# Altium integrated library Infineon_Microcontroller.IntLib: 721 symbols (part 11 of 66)
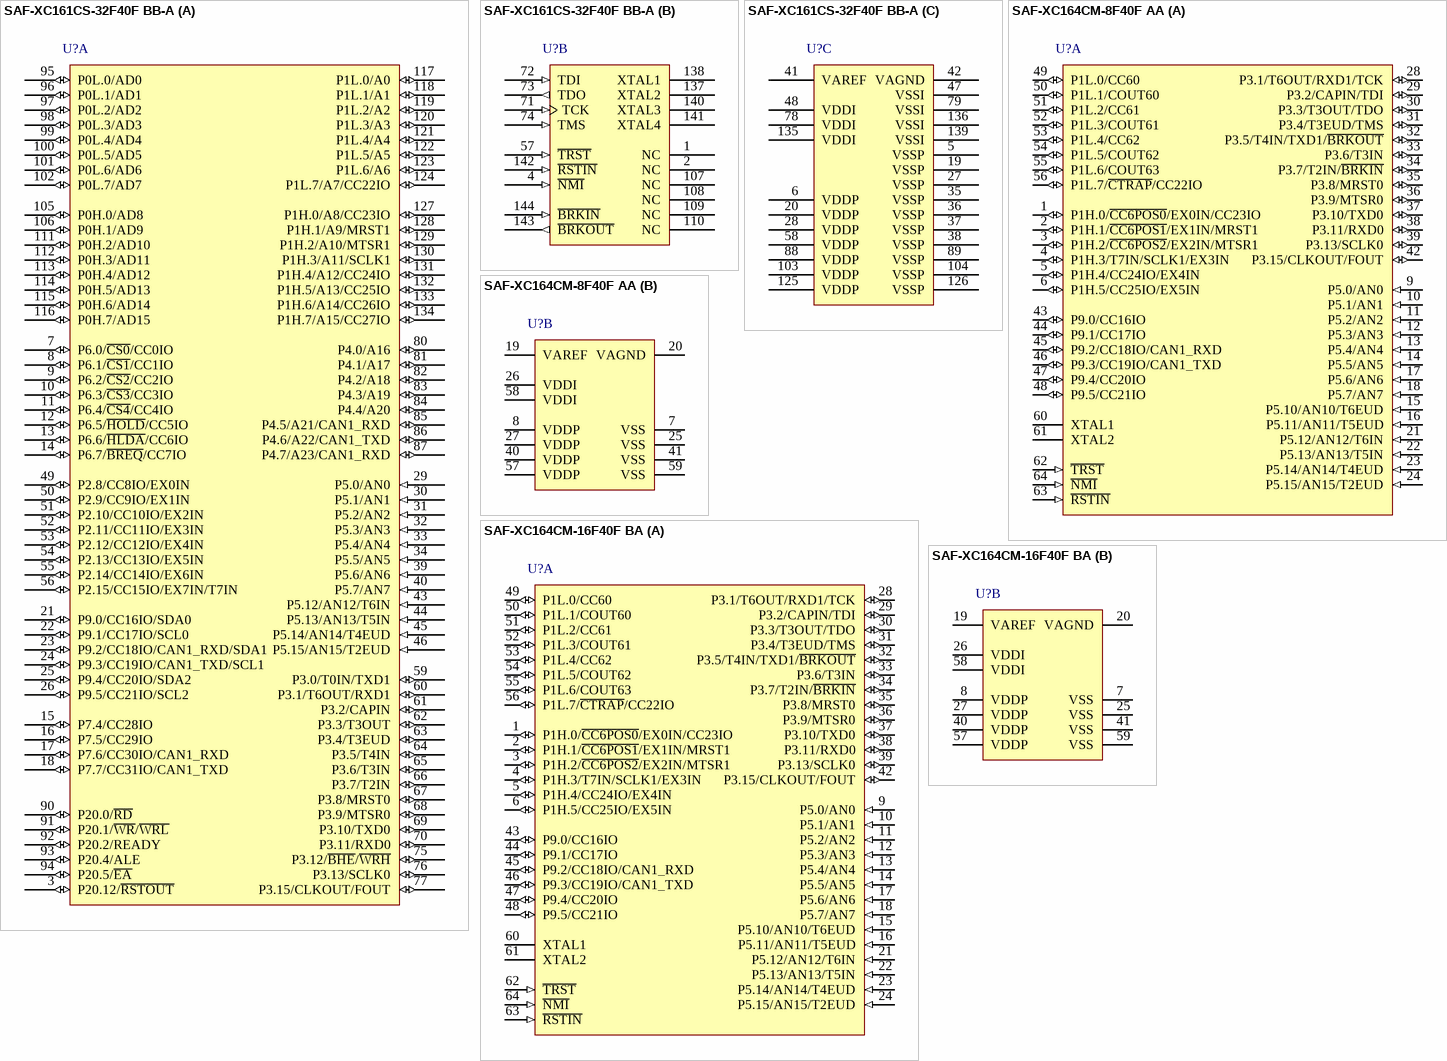
[diagram p128: symbols SAF-XC161CS-32F40F BB-A to SAF-XC164CM-16F40F BA]

## SAF-XC164CM-16F40F BA
designator U?
40 MHz XC166 MCU with 128 KByte Program Memory, 8 KByte SRAM, 5 V, -40 to 85 degC, PG-LQFP-64, Reel, Green; Manufacturer: Infineon; PartNumber: SAF-XC164CM-16F40F BA; A / D input lines (incl. FADC): 14; CAN Nodes: 2; Digital I/O Lines: 47; DSP functionality (e.g MDU/MAC): TRUE; I/O Operation Voltages: 5 V; Instruction width [bits]: 16; Max Clock Frequency: 40 MHz; Number of ADC Modules: 1; Packing: Tray; Power Modes: 3; Serial I/O Interfaces: 4; SRAM (incl. Cache): 8 KByte; Timed I/O Pins (PWM-Ch,CAPCOM): 20; Timer / Counter: 9; Type of Memory: Flash; Type of Serial I/O Interfaces: ASC(2), SSC(2); DatasheetVersion: Rev. 1.4; PackageVersion: Jun-08; PackageReference: PG-LQFP-64-4; PackageDescription: 64-Pin Plastic (Green) Low Profile Quad Flat Package, 10 x 10 mm Body, 0.5 mm Pitch; Supplier 1: Newark; Supplier Part Number 1: 47W3695; Supplier 2: Farnell; Supplier Part Number 2: 2212022; Supplier 3: Digi-Key; Supplier Part Number 3: SAF-XC164CM-16F40F BA-ND; External Bus interface: TRUE; Green: TRUE; Oscillator Watchdog: TRUE; Program Memory: 128 KByte; Real Time Clock (RTC): TRUE; Watchdog Timer: TRUE; Mounting Technology: Surface Mount; ComponentLink1Description: Manufacturer URL; ComponentLink1URL: http://www.infineon.com/; ComponentLink2Description: Datasheet; ComponentLink2URL: http://www.infineon.com/dgdl/xc164cm_ds_v1.4_2007_03.pdf?folderId=db3a304412b407950112b408e8c90004&fileId=db3a304412b407950112b40c0f3c0a1b; ComponentLink3Description: Package Specification; ComponentLink3URL: http://www.infineon.com/dgdl/PG-LQFP-64-4%2C-5%2C-13-Package_Overview.pdf?folderId=db3a30431a5c32f2011a8ca6115b5cf2&fileId=db3a30431a5c32f2011a8cb1baf95d11
footprint INF-PG-LQFP-64-4_N (QFP, 64-Leads, Body 10x10mm, Pitch 0.5mm, IPC Medium Density)
footprint INF-PG-LQFP-64-4_L (QFP, 64-Leads, Body 10x10mm, Pitch 0.5mm, IPC High Density)
footprint INF-PG-LQFP-64-4_M (QFP, 64-Leads, Body 10x10mm, Pitch 0.5mm, IPC Low Density)
part A pins: 1 P1H.0/~{CC6POS0}/EX0IN/CC23IO (io), 2 P1H.1/~{CC6POS1}/EX1IN/MRST1 (io), 3 P1H.2/~{CC6POS2}/EX2IN/MTSR1 (io), 4 P1H.3/T7IN/SCLK1/EX3IN (io), 5 P1H.4/CC24IO/EX4IN (io), 6 P1H.5/CC25IO/EX5IN (io), 9 P5.0/AN0 (in), 10 P5.1/AN1 (in), 11 P5.2/AN2 (in), 12 P5.3/AN3 (in), 13 P5.4/AN4 (in), 14 P5.5/AN5 (in), 15 P5.10/AN10/T6EUD (in), 16 P5.11/AN11/T5EUD (in), 17 P5.6/AN6 (in), 18 P5.7/AN7 (in), 21 P5.12/AN12/T6IN (in), 22 P5.13/AN13/T5IN (in), 23 P5.14/AN14/T4EUD (in), 24 P5.15/AN15/T2EUD (in), 28 P3.1/T6OUT/RXD1/TCK (io), 29 P3.2/CAPIN/TDI (io), 30 P3.3/T3OUT/TDO (io), 31 P3.4/T3EUD/TMS (io), 32 P3.5/T4IN/TXD1/~{BRKOUT} (io), 33 P3.6/T3IN (io), 34 P3.7/T2IN/~{BRKIN} (io), 35 P3.8/MRST0 (io), 36 P3.9/MTSR0 (io), 37 P3.10/TXD0 (io), 38 P3.11/RXD0 (io), 39 P3.13/SCLK0 (io), 42 P3.15/CLKOUT/FOUT (io), 43 P9.0/CC16IO (io), 44 P9.1/CC17IO (io), 45 P9.2/CC18IO/CAN1_RXD (io), 46 P9.3/CC19IO/CAN1_TXD (io), 47 P9.4/CC20IO (io), 48 P9.5/CC21IO (io), 49 P1L.0/CC60 (io), 50 P1L.1/COUT60 (io), 51 P1L.2/CC61 (io), 52 P1L.3/COUT61 (io), 53 P1L.4/CC62 (io), 54 P1L.5/COUT62 (io), 55 P1L.6/COUT63 (io), 56 P1L.7/~{CTRAP}/CC22IO (io), 60 XTAL1 "XTAL1: Input to the oscillator amplifier and input to the internal clock generator To clock the device from an external source, drive XTAL1, while leaving XTAL2 unconnected. Minimum and maximum high/low and rise/fall times (See Datasheet)", 61 XTAL2 "XTAL2: Output of the oscillator amplifier circuit", 62 ~{TRST} (in) "Test-System Reset Input. For normal system operation, pin T\R\S\T\ should be held low. A high level at this pin at the rising edge of R\S\T\I\N\ enables the hardware configuration and activates the XC164CM’s debug system(See Datasheet)", 63 ~{RSTIN} (in) "Reset Input with Schmitt-Trigger characteristics. A low-level at this pin while the oscillator is running resets the XC164CM. A spike filter suppresses input pulses < 10 ns. Input pulses > 100 ns safely pass the filter. The (See Datasheet)", 64 ~{NMI} (in) "Non-Maskable Interrupt Input. A high to low transition at this pin causes the CPU to vector to the NMI trap routine. When the PWRDN (power down) instruction is executed, the N\M\I\ pin must be low in order to force the (See Datasheet)"
part B pins: 7 VSS (power) "Digital Ground", 8 VDDP (power) "Digital Pad Supply Voltage (Pin Output Drivers): +5 V during normal operation and idle mode. Please refer to the Operating Condition Parameters", 19 VAREF (power) "Reference voltage for the A/D converter", 20 VAGND (power) "Reference ground for the A/D converter", 25 VSS (power) "Digital Ground", 26 VDDI (power) "Digital Core Supply Voltage (On-Chip Modules): +2.5 V during normal operation and idle mode. Please refer to the Operating Condition Parameters", 27 VDDP (power) "Digital Pad Supply Voltage (Pin Output Drivers): +5 V during normal operation and idle mode. Please refer to the Operating Condition Parameters", 40 VDDP (power) "Digital Pad Supply Voltage (Pin Output Drivers): +5 V during normal operation and idle mode. Please refer to the Operating Condition Parameters", 41 VSS (power) "Digital Ground", 57 VDDP (power) "Digital Pad Supply Voltage (Pin Output Drivers): +5 V during normal operation and idle mode. Please refer to the Operating Condition Parameters", 58 VDDI (power) "Digital Core Supply Voltage (On-Chip Modules): +2.5 V during normal operation and idle mode. Please refer to the Operating Condition Parameters", 59 VSS (power) "Digital Ground"

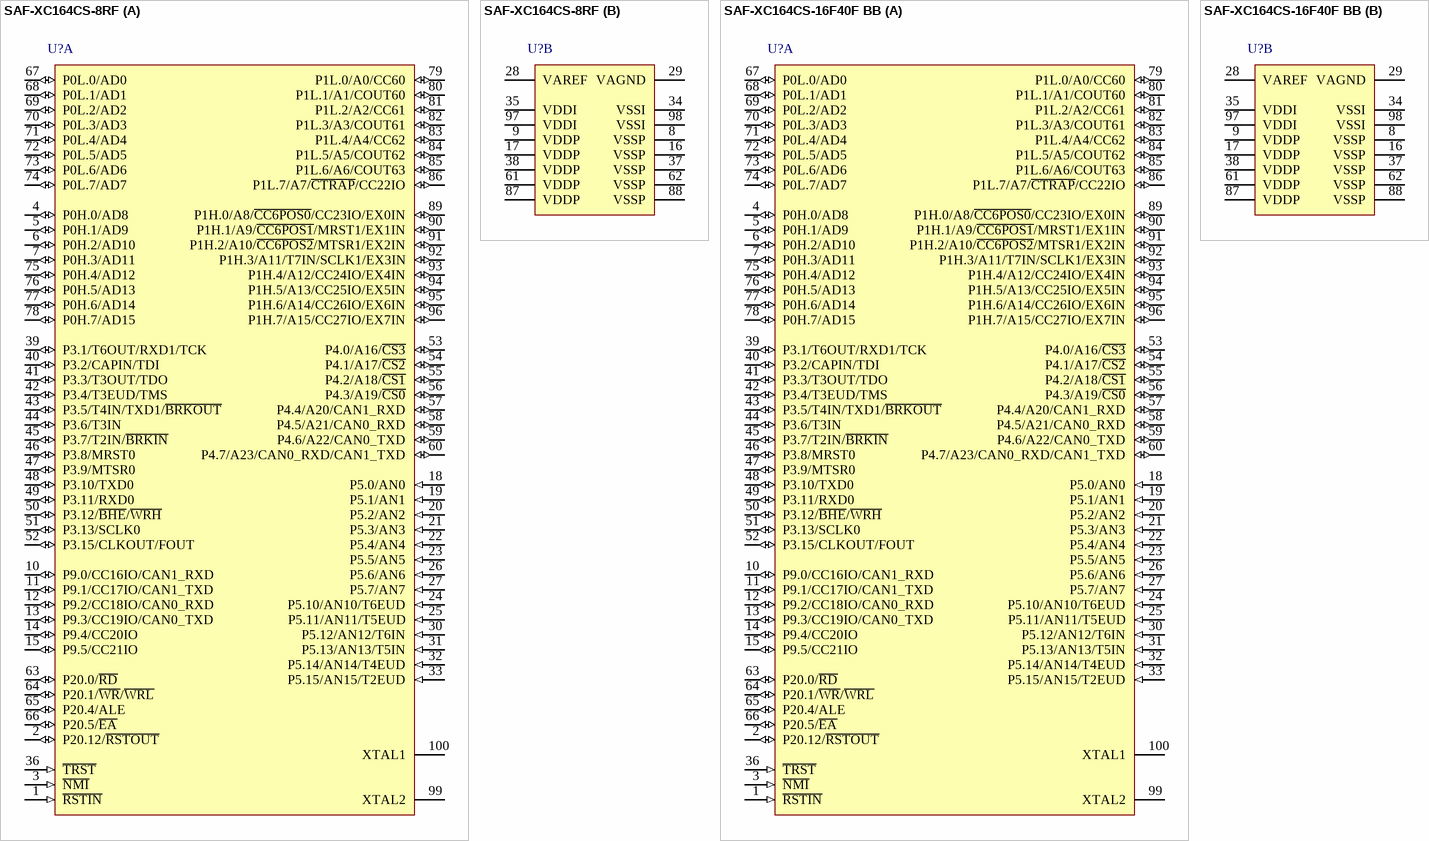
[diagram p17: symbols SAF-XC164CS-8RF to SAF-XC164CS-16F40F BB]

## SAF-XC164CS-8RF
designator U?
40 MHz XC166 MCU with 64 KByte Program Memory, 6 KByte SRAM, 5 V, -40 to 85 degC, PG-TQFP-100, Green; Manufacturer: Infineon; PartNumber: SAF-XC164CS-8RF; A / D input lines (incl. FADC): 14; CAN Nodes: 2; Digital I/O Lines: 79; DSP functionality (e.g MDU/MAC): TRUE; I/O Operation Voltages: 5 V; Instruction width [bits]: 16; Max Clock Frequency: 40 MHz; Number of ADC Modules: 1; Power Modes: 3; Serial I/O Interfaces: 4; SRAM (incl. Cache): 6 KByte; Timed I/O Pins (PWM-Ch,CAPCOM): 36; Timer / Counter: 11; Type of Memory: ROM; Type of Serial I/O Interfaces: ASC(2), SSC(2); DatasheetVersion: Rev. 2.3; PackageVersion: V2.3, 08/2006; PackageReference: PG-TQFP-100-5; PackageDescription: 100-Pin Plastic Green Thin Quad Flat Package, Body 14 x 14 mm, Pitch 0.5 mm; Supplier 1: Mouser; Supplier Part Number 1: N/A; External Bus interface: TRUE; Green: TRUE; Oscillator Watchdog: TRUE; Program Memory: 64 KByte; Real Time Clock (RTC): TRUE; Watchdog Timer: TRUE; Mounting Technology: Surface Mount; Code_JEDEC: J-STD-020C; ComponentLink1Description: Manufacturer URL; ComponentLink1URL: http://www.infineon.com/; ComponentLink2Description: Datasheet; ComponentLink2URL: http://www.infineon.com/dgdl/xc164cs_16_ds_v2.3_2006_08.pdf?folderId=db3a3043136c9a8b01136d92c94b0061&fileId=db3a3043136c9a8b01136daed118006e; ComponentLink3Description: Package Specification; ComponentLink3URL: http://www.infineon.com/dgdl/xc164cs_16_ds_v2.3_2006_08.pdf?folderId=db3a3043136c9a8b01136d92c94b0061&fileId=db3a3043136c9a8b01136daed118006e&sId=db3a30433d956bc3013d9bdc2bfa14ec
footprint INF-PG-TQFP-100-5_N (QFP, 100-Leads, Body 14x14mm, Pitch 0.5mm, IPC Medium Density)
footprint INF-PG-TQFP-100-5_L (QFP, 100-Leads, Body 14x14mm, Pitch 0.5mm, IPC High Density)
footprint INF-PG-TQFP-100-5_M (QFP, 100-Leads, Body 14x14mm, Pitch 0.5mm, IPC Low Density)
part A pins: 1 ~{RSTIN} (in) "Reset Input with Schmitt-Trigger characteristics. A low level at this pin while the oscillator is running resets the XC164CS. A spike filter suppresses input pulses < 10 ns. Input pulses > 100 ns safely pass the filter. The (See Datasheet)", 2 P20.12/~{RSTOUT} (io), 3 ~{NMI} (in) "Non-Maskable Interrupt Input. A high to low transition at this pin causes the CPU to vector to the NMI trap routine. When the PWRDN (power down) instruction is executed, the N\M\I\ pin must be low in order to force the (See Datasheet)", 4 P0H.0/AD8 (io), 5 P0H.1/AD9 (io), 6 P0H.2/AD10 (io), 7 P0H.3/AD11 (io), 10 P9.0/CC16IO/CAN1_RXD (io), 11 P9.1/CC17IO/CAN1_TXD (io), 12 P9.2/CC18IO/CAN0_RXD (io), 13 P9.3/CC19IO/CAN0_TXD (io), 14 P9.4/CC20IO (io), 15 P9.5/CC21IO (io), 18 P5.0/AN0 (in), 19 P5.1/AN1 (in), 20 P5.2/AN2 (in), 21 P5.3/AN3 (in), 22 P5.4/AN4 (in), 23 P5.5/AN5 (in), 24 P5.10/AN10/T6EUD (in), 25 P5.11/AN11/T5EUD (in), 26 P5.6/AN6 (in), 27 P5.7/AN7 (in), 30 P5.12/AN12/T6IN (in), 31 P5.13/AN13/T5IN (in), 32 P5.14/AN14/T4EUD (in), 33 P5.15/AN15/T2EUD (in), 36 ~{TRST} (in) "Test-System Reset Input. A high level at this pin activates the XC164CS’s debug system. For normal system operation, pin T\R\S\T\ should be held low.", 39 P3.1/T6OUT/RXD1/TCK (io), 40 P3.2/CAPIN/TDI (io), 41 P3.3/T3OUT/TDO (io), 42 P3.4/T3EUD/TMS (io), 43 P3.5/T4IN/TXD1/~{BRKOUT} (io), 44 P3.6/T3IN (io), 45 P3.7/T2IN/~{BRKIN} (io), 46 P3.8/MRST0 (io), 47 P3.9/MTSR0 (io), 48 P3.10/TXD0 (io), 49 P3.11/RXD0 (io), 50 P3.12/~{BHE}/~{WRH} (io), 51 P3.13/SCLK0 (io), 52 P3.15/CLKOUT/FOUT (io), 53 P4.0/A16/~{CS3} (io), 54 P4.1/A17/~{CS2} (io), 55 P4.2/A18/~{CS1} (io), 56 P4.3/A19/~{CS0} (io), 57 P4.4/A20/CAN1_RXD (io), 58 P4.5/A21/CAN0_RXD (io), 59 P4.6/A22/CAN0_TXD (io), 60 P4.7/A23/CAN0_RXD/CAN1_TXD (io), 63 P20.0/~{RD} (io), 64 P20.1/~{WR}/~{WRL} (io), 65 P20.4/ALE (io), 66 P20.5/~{EA} (io), 67 P0L.0/AD0 (io), 68 P0L.1/AD1 (io), 69 P0L.2/AD2 (io), 70 P0L.3/AD3 (io), 71 P0L.4/AD4 (io), 72 P0L.5/AD5 (io), 73 P0L.6/AD6 (io), 74 P0L.7/AD7 (io), 75 P0H.4/AD12 (io), 76 P0H.5/AD13 (io), 77 P0H.6/AD14 (io), 78 P0H.7/AD15 (io), 79 P1L.0/A0/CC60 (io), 80 P1L.1/A1/COUT60 (io), 81 P1L.2/A2/CC61 (io), 82 P1L.3/A3/COUT61 (io), 83 P1L.4/A4/CC62 (io), 84 P1L.5/A5/COUT62 (io), 85 P1L.6/A6/COUT63 (io), 86 P1L.7/A7/~{CTRAP}/CC22IO (io), 89 P1H.0/A8/~{CC6POS0}/CC23IO/EX0IN (io), 90 P1H.1/A9/~{CC6POS1}/MRST1/EX1IN (io), 91 P1H.2/A10/~{CC6POS2}/MTSR1/EX2IN (io), 92 P1H.3/A11/T7IN/SCLK1/EX3IN (io), 93 P1H.4/A12/CC24IO/EX4IN (io), 94 P1H.5/A13/CC25IO/EX5IN (io), 95 P1H.6/A14/CC26IO/EX6IN (io), 96 P1H.7/A15/CC27IO/EX7IN (io), 99 XTAL2 "Output of the oscillator amplifier circuit", 100 XTAL1 "Input to the oscillator amplifier and input to the internal clock generator"
part B pins: 8 VSSP (power) "Digital Ground.", 9 VDDP (power) "Digital Pad Supply Voltage", 16 VSSP (power) "Digital Ground.", 17 VDDP (power) "Digital Pad Supply Voltage", 28 VAREF (power) "Reference voltage for the A/D converter.", 29 VAGND (power) "Reference ground for the A/D converter.", 34 VSSI (power) "Digital Ground.", 35 VDDI (power) "Digital Core Supply Voltage", 37 VSSP (power) "Digital Ground.", 38 VDDP (power) "Digital Pad Supply Voltage", 61 VDDP (power) "Digital Pad Supply Voltage", 62 VSSP (power) "Digital Ground.", 87 VDDP (power) "Digital Pad Supply Voltage", 88 VSSP (power) "Digital Ground.", 97 VDDI (power) "Digital Core Supply Voltage", 98 VSSI (power) "Digital Ground."

## SAF-XC164CS-16F40F BB
designator U?
40 MHz XC166 MCU with 128 KByte Program Memory, 8 KByte SRAM, 5 V, -40 to 85 degC, PG-TQFP-100, Reel, Green; Manufacturer: Infineon; PartNumber: SAF-XC164CS-16F40F BB; A / D input lines (incl. FADC): 14; CAN Nodes: 2; Digital I/O Lines: 79; DSP functionality (e.g MDU/MAC): TRUE; I/O Operation Voltages: 5 V; Instruction width [bits]: 16; Max Clock Frequency: 40 MHz; Number of ADC Modules: 1; Power Modes: 3; Serial I/O Interfaces: 4; SRAM (incl. Cache): 8 KByte; Timed I/O Pins (PWM-Ch,CAPCOM): 36; Timer / Counter: 11; Type of Memory: Flash; Type of Serial I/O Interfaces: ASC(2), SSC(2); DatasheetVersion: Rev. 2.3; PackageVersion: V2.3, 08/2006; PackageReference: PG-TQFP-100-5; PackageDescription: 100-Pin Plastic Green Thin Quad Flat Package, Body 14 x 14 mm, Pitch 0.5 mm; Supplier 1: Mouser; Supplier Part Number 1: 726-SAFXC164CS16F40F; Supplier 2: Newark; Supplier Part Number 2: 47W3697; Supplier 3: Farnell; Supplier Part Number 3: 2212028; Supplier 4: Digi-Key; Supplier Part Number 4: SAF-XC164CS-16F40F BB-ND; External Bus interface: TRUE; Green: TRUE; Halogen-free: TRUE; Oscillator Watchdog: TRUE; Packing: Reel; Program Memory: 128 KByte; Real Time Clock (RTC): TRUE; Watchdog Timer: TRUE; Mounting Technology: Surface Mount; Code_JEDEC: J-STD-020C; ComponentLink1Description: Manufacturer URL; ComponentLink1URL: http://www.infineon.com/; ComponentLink2Description: Datasheet; ComponentLink2URL: http://www.infineon.com/dgdl/xc164cs_16_ds_v2.3_2006_08.pdf?folderId=db3a3043136c9a8b01136d92c94b0061&fileId=db3a3043136c9a8b01136daed118006e; ComponentLink3Description: Package Specification; ComponentLink3URL: http://www.infineon.com/dgdl/xc164cs_16_ds_v2.3_2006_08.pdf?folderId=db3a3043136c9a8b01136d92c94b0061&fileId=db3a3043136c9a8b01136daed118006e&sId=db3a30433d956bc3013d9bdc2bfa14ec
footprint INF-PG-TQFP-100-5_N (QFP, 100-Leads, Body 14x14mm, Pitch 0.5mm, IPC Medium Density)
footprint INF-PG-TQFP-100-5_L (QFP, 100-Leads, Body 14x14mm, Pitch 0.5mm, IPC High Density)
footprint INF-PG-TQFP-100-5_M (QFP, 100-Leads, Body 14x14mm, Pitch 0.5mm, IPC Low Density)
part A pins: 1 ~{RSTIN} (in) "Reset Input with Schmitt-Trigger characteristics. A low level at this pin while the oscillator is running resets the XC164CS. A spike filter suppresses input pulses < 10 ns. Input pulses > 100 ns safely pass the filter. The (See Datasheet)", 2 P20.12/~{RSTOUT} (io), 3 ~{NMI} (in) "Non-Maskable Interrupt Input. A high to low transition at this pin causes the CPU to vector to the NMI trap routine. When the PWRDN (power down) instruction is executed, the N\M\I\ pin must be low in order to force the (See Datasheet)", 4 P0H.0/AD8 (io), 5 P0H.1/AD9 (io), 6 P0H.2/AD10 (io), 7 P0H.3/AD11 (io), 10 P9.0/CC16IO/CAN1_RXD (io), 11 P9.1/CC17IO/CAN1_TXD (io), 12 P9.2/CC18IO/CAN0_RXD (io), 13 P9.3/CC19IO/CAN0_TXD (io), 14 P9.4/CC20IO (io), 15 P9.5/CC21IO (io), 18 P5.0/AN0 (in), 19 P5.1/AN1 (in), 20 P5.2/AN2 (in), 21 P5.3/AN3 (in), 22 P5.4/AN4 (in), 23 P5.5/AN5 (in), 24 P5.10/AN10/T6EUD (in), 25 P5.11/AN11/T5EUD (in), 26 P5.6/AN6 (in), 27 P5.7/AN7 (in), 30 P5.12/AN12/T6IN (in), 31 P5.13/AN13/T5IN (in), 32 P5.14/AN14/T4EUD (in), 33 P5.15/AN15/T2EUD (in), 36 ~{TRST} (in) "Test-System Reset Input. A high level at this pin activates the XC164CS’s debug system. For normal system operation, pin T\R\S\T\ should be held low.", 39 P3.1/T6OUT/RXD1/TCK (io), 40 P3.2/CAPIN/TDI (io), 41 P3.3/T3OUT/TDO (io), 42 P3.4/T3EUD/TMS (io), 43 P3.5/T4IN/TXD1/~{BRKOUT} (io), 44 P3.6/T3IN (io), 45 P3.7/T2IN/~{BRKIN} (io), 46 P3.8/MRST0 (io), 47 P3.9/MTSR0 (io), 48 P3.10/TXD0 (io), 49 P3.11/RXD0 (io), 50 P3.12/~{BHE}/~{WRH} (io), 51 P3.13/SCLK0 (io), 52 P3.15/CLKOUT/FOUT (io), 53 P4.0/A16/~{CS3} (io), 54 P4.1/A17/~{CS2} (io), 55 P4.2/A18/~{CS1} (io), 56 P4.3/A19/~{CS0} (io), 57 P4.4/A20/CAN1_RXD (io), 58 P4.5/A21/CAN0_RXD (io), 59 P4.6/A22/CAN0_TXD (io), 60 P4.7/A23/CAN0_RXD/CAN1_TXD (io), 63 P20.0/~{RD} (io), 64 P20.1/~{WR}/~{WRL} (io), 65 P20.4/ALE (io), 66 P20.5/~{EA} (io), 67 P0L.0/AD0 (io), 68 P0L.1/AD1 (io), 69 P0L.2/AD2 (io), 70 P0L.3/AD3 (io), 71 P0L.4/AD4 (io), 72 P0L.5/AD5 (io), 73 P0L.6/AD6 (io), 74 P0L.7/AD7 (io), 75 P0H.4/AD12 (io), 76 P0H.5/AD13 (io), 77 P0H.6/AD14 (io), 78 P0H.7/AD15 (io), 79 P1L.0/A0/CC60 (io), 80 P1L.1/A1/COUT60 (io), 81 P1L.2/A2/CC61 (io), 82 P1L.3/A3/COUT61 (io), 83 P1L.4/A4/CC62 (io), 84 P1L.5/A5/COUT62 (io), 85 P1L.6/A6/COUT63 (io), 86 P1L.7/A7/~{CTRAP}/CC22IO (io), 89 P1H.0/A8/~{CC6POS0}/CC23IO/EX0IN (io), 90 P1H.1/A9/~{CC6POS1}/MRST1/EX1IN (io), 91 P1H.2/A10/~{CC6POS2}/MTSR1/EX2IN (io), 92 P1H.3/A11/T7IN/SCLK1/EX3IN (io), 93 P1H.4/A12/CC24IO/EX4IN (io), 94 P1H.5/A13/CC25IO/EX5IN (io), 95 P1H.6/A14/CC26IO/EX6IN (io), 96 P1H.7/A15/CC27IO/EX7IN (io), 99 XTAL2 "Output of the oscillator amplifier circuit", 100 XTAL1 "Input to the oscillator amplifier and input to the internal clock generator"
part B pins: 8 VSSP (power) "Digital Ground.", 9 VDDP (power) "Digital Pad Supply Voltage", 16 VSSP (power) "Digital Ground.", 17 VDDP (power) "Digital Pad Supply Voltage", 28 VAREF (power) "Reference voltage for the A/D converter.", 29 VAGND (power) "Reference ground for the A/D converter.", 34 VSSI (power) "Digital Ground.", 35 VDDI (power) "Digital Core Supply Voltage", 37 VSSP (power) "Digital Ground.", 38 VDDP (power) "Digital Pad Supply Voltage", 61 VDDP (power) "Digital Pad Supply Voltage", 62 VSSP (power) "Digital Ground.", 87 VDDP (power) "Digital Pad Supply Voltage", 88 VSSP (power) "Digital Ground.", 97 VDDI (power) "Digital Core Supply Voltage", 98 VSSI (power) "Digital Ground."

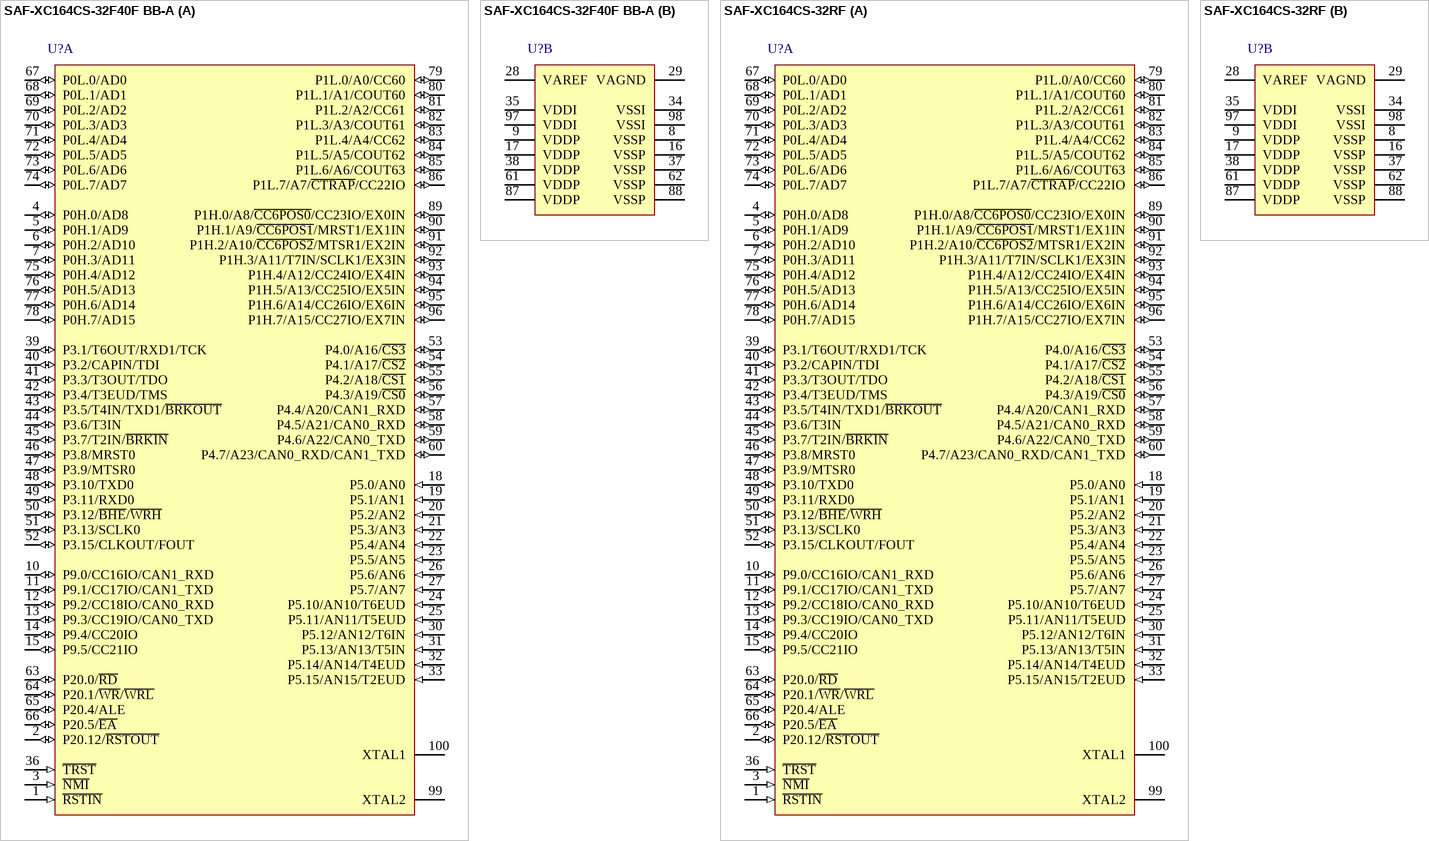
[diagram p18: symbols SAF-XC164CS-32F40F BB-A to SAF-XC164CS-32RF]

## SAF-XC164CS-32F40F BB-A
designator U?
40 MHz XC166 MCU with 256 KByte Program Memory, 12 KByte SRAM, 5 V, -40 to 85 degC, PG-TQFP-100, Reel, Green; Manufacturer: Infineon; PartNumber: SAF-XC164CS-32F40F BB-A; A / D input lines (incl. FADC): 14; CAN Nodes: 2; Digital I/O Lines: 79; DSP functionality (e.g MDU/MAC): TRUE; I/O Operation Voltages: 5 V; Instruction width [bits]: 16; Max Clock Frequency: 40 MHz; Number of ADC Modules: 1; Power Modes: 3; Serial I/O Interfaces: 4; Timed I/O Pins (PWM-Ch,CAPCOM): 36; Timer / Counter: 11; Type of Memory: Flash; Type of Serial I/O Interfaces: ASC(2), SSC(2); DatasheetVersion: Rev. 1.1; PackageVersion: V2.3, 08/2006; PackageReference: PG-TQFP-100-5; PackageDescription: 100-Pin Plastic Green Thin Quad Flat Package, Body 14 x 14 mm, Pitch 0.5 mm; Supplier 1: Mouser; Supplier Part Number 1: 726-SAFXC164CS32F40F; Supplier 2: Newark; Supplier Part Number 2: 47W3698; Supplier 3: Farnell; Supplier Part Number 3: 2212023; Supplier 4: Digi-Key; Supplier Part Number 4: SAF-XC164CS-32F40F BB-A-ND; External Bus interface: TRUE; Green: TRUE; Halogen-free: TRUE; Oscillator Watchdog: TRUE; Packing: Reel; Program Memory: 256 KByte; Real Time Clock (RTC): TRUE; SRAM (incl. Cache): 12 KByte; Watchdog Timer: TRUE; Mounting Technology: Surface Mount; Code_JEDEC: J-STD-020C; ComponentLink1Description: Manufacturer URL; ComponentLink1URL: http://www.infineon.com/; ComponentLink2Description: Datasheet; ComponentLink2URL: http://www.infineon.com/dgdl/xc164cs_32_ds_v1.1_2006_08.pdf?folderId=db3a3043136c9a8b01136d92c94b0061&fileId=db3a3043136c9a8b01136d9c9f930069; ComponentLink3Description: Package Specification; ComponentLink3URL: http://www.infineon.com/dgdl/xc164cs_16_ds_v2.3_2006_08.pdf?folderId=db3a3043136c9a8b01136d92c94b0061&fileId=db3a3043136c9a8b01136daed118006e&sId=db3a30433d956bc3013d9bdc2bfa14ec
footprint INF-PG-TQFP-100-5_N (QFP, 100-Leads, Body 14x14mm, Pitch 0.5mm, IPC Medium Density)
footprint INF-PG-TQFP-100-5_L (QFP, 100-Leads, Body 14x14mm, Pitch 0.5mm, IPC High Density)
footprint INF-PG-TQFP-100-5_M (QFP, 100-Leads, Body 14x14mm, Pitch 0.5mm, IPC Low Density)
part A pins: 1 ~{RSTIN} (in) "Reset Input with Schmitt-Trigger characteristics. A low level at this pin while the oscillator is running resets the XC164CS. A spike filter suppresses input pulses < 10 ns. Input pulses > 100 ns safely pass the filter. The (See Datasheet)", 2 P20.12/~{RSTOUT} (io), 3 ~{NMI} (in) "Non-Maskable Interrupt Input. A high to low transition at this pin causes the CPU to vector to the NMI trap routine. When the PWRDN (power down) instruction is executed, the N\M\I\ pin must be low in order to force the (See Datasheet)", 4 P0H.0/AD8 (io), 5 P0H.1/AD9 (io), 6 P0H.2/AD10 (io), 7 P0H.3/AD11 (io), 10 P9.0/CC16IO/CAN1_RXD (io), 11 P9.1/CC17IO/CAN1_TXD (io), 12 P9.2/CC18IO/CAN0_RXD (io), 13 P9.3/CC19IO/CAN0_TXD (io), 14 P9.4/CC20IO (io), 15 P9.5/CC21IO (io), 18 P5.0/AN0 (in), 19 P5.1/AN1 (in), 20 P5.2/AN2 (in), 21 P5.3/AN3 (in), 22 P5.4/AN4 (in), 23 P5.5/AN5 (in), 24 P5.10/AN10/T6EUD (in), 25 P5.11/AN11/T5EUD (in), 26 P5.6/AN6 (in), 27 P5.7/AN7 (in), 30 P5.12/AN12/T6IN (in), 31 P5.13/AN13/T5IN (in), 32 P5.14/AN14/T4EUD (in), 33 P5.15/AN15/T2EUD (in), 36 ~{TRST} (in) "Test-System Reset Input. A high level at this pin activates the XC164CS’s debug system. For normal system operation, pin T\R\S\T\ should be held low.", 39 P3.1/T6OUT/RXD1/TCK (io), 40 P3.2/CAPIN/TDI (io), 41 P3.3/T3OUT/TDO (io), 42 P3.4/T3EUD/TMS (io), 43 P3.5/T4IN/TXD1/~{BRKOUT} (io), 44 P3.6/T3IN (io), 45 P3.7/T2IN/~{BRKIN} (io), 46 P3.8/MRST0 (io), 47 P3.9/MTSR0 (io), 48 P3.10/TXD0 (io), 49 P3.11/RXD0 (io), 50 P3.12/~{BHE}/~{WRH} (io), 51 P3.13/SCLK0 (io), 52 P3.15/CLKOUT/FOUT (io), 53 P4.0/A16/~{CS3} (io), 54 P4.1/A17/~{CS2} (io), 55 P4.2/A18/~{CS1} (io), 56 P4.3/A19/~{CS0} (io), 57 P4.4/A20/CAN1_RXD (io), 58 P4.5/A21/CAN0_RXD (io), 59 P4.6/A22/CAN0_TXD (io), 60 P4.7/A23/CAN0_RXD/CAN1_TXD (io), 63 P20.0/~{RD} (io), 64 P20.1/~{WR}/~{WRL} (io), 65 P20.4/ALE (io), 66 P20.5/~{EA} (io), 67 P0L.0/AD0 (io), 68 P0L.1/AD1 (io), 69 P0L.2/AD2 (io), 70 P0L.3/AD3 (io), 71 P0L.4/AD4 (io), 72 P0L.5/AD5 (io), 73 P0L.6/AD6 (io), 74 P0L.7/AD7 (io), 75 P0H.4/AD12 (io), 76 P0H.5/AD13 (io), 77 P0H.6/AD14 (io), 78 P0H.7/AD15 (io), 79 P1L.0/A0/CC60 (io), 80 P1L.1/A1/COUT60 (io), 81 P1L.2/A2/CC61 (io), 82 P1L.3/A3/COUT61 (io), 83 P1L.4/A4/CC62 (io), 84 P1L.5/A5/COUT62 (io), 85 P1L.6/A6/COUT63 (io), 86 P1L.7/A7/~{CTRAP}/CC22IO (io), 89 P1H.0/A8/~{CC6POS0}/CC23IO/EX0IN (io), 90 P1H.1/A9/~{CC6POS1}/MRST1/EX1IN (io), 91 P1H.2/A10/~{CC6POS2}/MTSR1/EX2IN (io), 92 P1H.3/A11/T7IN/SCLK1/EX3IN (io), 93 P1H.4/A12/CC24IO/EX4IN (io), 94 P1H.5/A13/CC25IO/EX5IN (io), 95 P1H.6/A14/CC26IO/EX6IN (io), 96 P1H.7/A15/CC27IO/EX7IN (io), 99 XTAL2 "Output of the oscillator amplifier circuit", 100 XTAL1 "Input to the oscillator amplifier and input to the internal clock generator"
part B pins: 8 VSSP (power) "Digital Ground.", 9 VDDP (power) "Digital Pad Supply Voltage", 16 VSSP (power) "Digital Ground.", 17 VDDP (power) "Digital Pad Supply Voltage", 28 VAREF (power) "Reference voltage for the A/D converter.", 29 VAGND (power) "Reference ground for the A/D converter.", 34 VSSI (power) "Digital Ground.", 35 VDDI (power) "Digital Core Supply Voltage", 37 VSSP (power) "Digital Ground.", 38 VDDP (power) "Digital Pad Supply Voltage", 61 VDDP (power) "Digital Pad Supply Voltage", 62 VSSP (power) "Digital Ground.", 87 VDDP (power) "Digital Pad Supply Voltage", 88 VSSP (power) "Digital Ground.", 97 VDDI (power) "Digital Core Supply Voltage", 98 VSSI (power) "Digital Ground."

## SAF-XC164CS-32RF
designator U?
40 MHz XC166 MCU with 256 KByte Program Memory, 12 KByte SRAM, 5 V, -40 to 85 degC, PG-TQFP-100, Green; Manufacturer: Infineon; PartNumber: SAF-XC164CS-32RF; A / D input lines (incl. FADC): 14; CAN Nodes: 2; Digital I/O Lines: 79; DSP functionality (e.g MDU/MAC): TRUE; I/O Operation Voltages: 5 V; Instruction width [bits]: 16; Max Clock Frequency: 40 MHz; Number of ADC Modules: 1; Power Modes: 3; Serial I/O Interfaces: 4; Timed I/O Pins (PWM-Ch,CAPCOM): 36; Timer / Counter: 11; Type of Memory: ROM; Type of Serial I/O Interfaces: ASC(2), SSC(2); DatasheetVersion: Rev. 1.1; PackageVersion: V2.3, 08/2006; PackageReference: PG-TQFP-100-5; PackageDescription: 100-Pin Plastic Green Thin Quad Flat Package, Body 14 x 14 mm, Pitch 0.5 mm; Supplier 1: Mouser; Supplier Part Number 1: N/A; External Bus interface: TRUE; Green: TRUE; Oscillator Watchdog: TRUE; Program Memory: 256 KByte; Real Time Clock (RTC): TRUE; SRAM (incl. Cache): 12 KByte; Watchdog Timer: TRUE; Mounting Technology: Surface Mount; Code_JEDEC: J-STD-020C; ComponentLink1Description: Manufacturer URL; ComponentLink1URL: http://www.infineon.com/; ComponentLink2Description: Datasheet; ComponentLink2URL: http://www.infineon.com/dgdl/xc164cs_32_ds_v1.1_2006_08.pdf?folderId=db3a3043136c9a8b01136d92c94b0061&fileId=db3a3043136c9a8b01136d9c9f930069; ComponentLink3Description: Package Specification; ComponentLink3URL: http://www.infineon.com/dgdl/xc164cs_16_ds_v2.3_2006_08.pdf?folderId=db3a3043136c9a8b01136d92c94b0061&fileId=db3a3043136c9a8b01136daed118006e&sId=db3a30433d956bc3013d9bdc2bfa14ec
footprint INF-PG-TQFP-100-5_N (QFP, 100-Leads, Body 14x14mm, Pitch 0.5mm, IPC Medium Density)
footprint INF-PG-TQFP-100-5_L (QFP, 100-Leads, Body 14x14mm, Pitch 0.5mm, IPC High Density)
footprint INF-PG-TQFP-100-5_M (QFP, 100-Leads, Body 14x14mm, Pitch 0.5mm, IPC Low Density)
part A pins: 1 ~{RSTIN} (in) "Reset Input with Schmitt-Trigger characteristics. A low level at this pin while the oscillator is running resets the XC164CS. A spike filter suppresses input pulses < 10 ns. Input pulses > 100 ns safely pass the filter. The (See Datasheet)", 2 P20.12/~{RSTOUT} (io), 3 ~{NMI} (in) "Non-Maskable Interrupt Input. A high to low transition at this pin causes the CPU to vector to the NMI trap routine. When the PWRDN (power down) instruction is executed, the N\M\I\ pin must be low in order to force the (See Datasheet)", 4 P0H.0/AD8 (io), 5 P0H.1/AD9 (io), 6 P0H.2/AD10 (io), 7 P0H.3/AD11 (io), 10 P9.0/CC16IO/CAN1_RXD (io), 11 P9.1/CC17IO/CAN1_TXD (io), 12 P9.2/CC18IO/CAN0_RXD (io), 13 P9.3/CC19IO/CAN0_TXD (io), 14 P9.4/CC20IO (io), 15 P9.5/CC21IO (io), 18 P5.0/AN0 (in), 19 P5.1/AN1 (in), 20 P5.2/AN2 (in), 21 P5.3/AN3 (in), 22 P5.4/AN4 (in), 23 P5.5/AN5 (in), 24 P5.10/AN10/T6EUD (in), 25 P5.11/AN11/T5EUD (in), 26 P5.6/AN6 (in), 27 P5.7/AN7 (in), 30 P5.12/AN12/T6IN (in), 31 P5.13/AN13/T5IN (in), 32 P5.14/AN14/T4EUD (in), 33 P5.15/AN15/T2EUD (in), 36 ~{TRST} (in) "Test-System Reset Input. A high level at this pin activates the XC164CS’s debug system. For normal system operation, pin T\R\S\T\ should be held low.", 39 P3.1/T6OUT/RXD1/TCK (io), 40 P3.2/CAPIN/TDI (io), 41 P3.3/T3OUT/TDO (io), 42 P3.4/T3EUD/TMS (io), 43 P3.5/T4IN/TXD1/~{BRKOUT} (io), 44 P3.6/T3IN (io), 45 P3.7/T2IN/~{BRKIN} (io), 46 P3.8/MRST0 (io), 47 P3.9/MTSR0 (io), 48 P3.10/TXD0 (io), 49 P3.11/RXD0 (io), 50 P3.12/~{BHE}/~{WRH} (io), 51 P3.13/SCLK0 (io), 52 P3.15/CLKOUT/FOUT (io), 53 P4.0/A16/~{CS3} (io), 54 P4.1/A17/~{CS2} (io), 55 P4.2/A18/~{CS1} (io), 56 P4.3/A19/~{CS0} (io), 57 P4.4/A20/CAN1_RXD (io), 58 P4.5/A21/CAN0_RXD (io), 59 P4.6/A22/CAN0_TXD (io), 60 P4.7/A23/CAN0_RXD/CAN1_TXD (io), 63 P20.0/~{RD} (io), 64 P20.1/~{WR}/~{WRL} (io), 65 P20.4/ALE (io), 66 P20.5/~{EA} (io), 67 P0L.0/AD0 (io), 68 P0L.1/AD1 (io), 69 P0L.2/AD2 (io), 70 P0L.3/AD3 (io), 71 P0L.4/AD4 (io), 72 P0L.5/AD5 (io), 73 P0L.6/AD6 (io), 74 P0L.7/AD7 (io), 75 P0H.4/AD12 (io), 76 P0H.5/AD13 (io), 77 P0H.6/AD14 (io), 78 P0H.7/AD15 (io), 79 P1L.0/A0/CC60 (io), 80 P1L.1/A1/COUT60 (io), 81 P1L.2/A2/CC61 (io), 82 P1L.3/A3/COUT61 (io), 83 P1L.4/A4/CC62 (io), 84 P1L.5/A5/COUT62 (io), 85 P1L.6/A6/COUT63 (io), 86 P1L.7/A7/~{CTRAP}/CC22IO (io), 89 P1H.0/A8/~{CC6POS0}/CC23IO/EX0IN (io), 90 P1H.1/A9/~{CC6POS1}/MRST1/EX1IN (io), 91 P1H.2/A10/~{CC6POS2}/MTSR1/EX2IN (io), 92 P1H.3/A11/T7IN/SCLK1/EX3IN (io), 93 P1H.4/A12/CC24IO/EX4IN (io), 94 P1H.5/A13/CC25IO/EX5IN (io), 95 P1H.6/A14/CC26IO/EX6IN (io), 96 P1H.7/A15/CC27IO/EX7IN (io), 99 XTAL2 "Output of the oscillator amplifier circuit", 100 XTAL1 "Input to the oscillator amplifier and input to the internal clock generator"
part B pins: 8 VSSP (power) "Digital Ground.", 9 VDDP (power) "Digital Pad Supply Voltage", 16 VSSP (power) "Digital Ground.", 17 VDDP (power) "Digital Pad Supply Voltage", 28 VAREF (power) "Reference voltage for the A/D converter.", 29 VAGND (power) "Reference ground for the A/D converter.", 34 VSSI (power) "Digital Ground.", 35 VDDI (power) "Digital Core Supply Voltage", 37 VSSP (power) "Digital Ground.", 38 VDDP (power) "Digital Pad Supply Voltage", 61 VDDP (power) "Digital Pad Supply Voltage", 62 VSSP (power) "Digital Ground.", 87 VDDP (power) "Digital Pad Supply Voltage", 88 VSSP (power) "Digital Ground.", 97 VDDI (power) "Digital Core Supply Voltage", 98 VSSI (power) "Digital Ground."

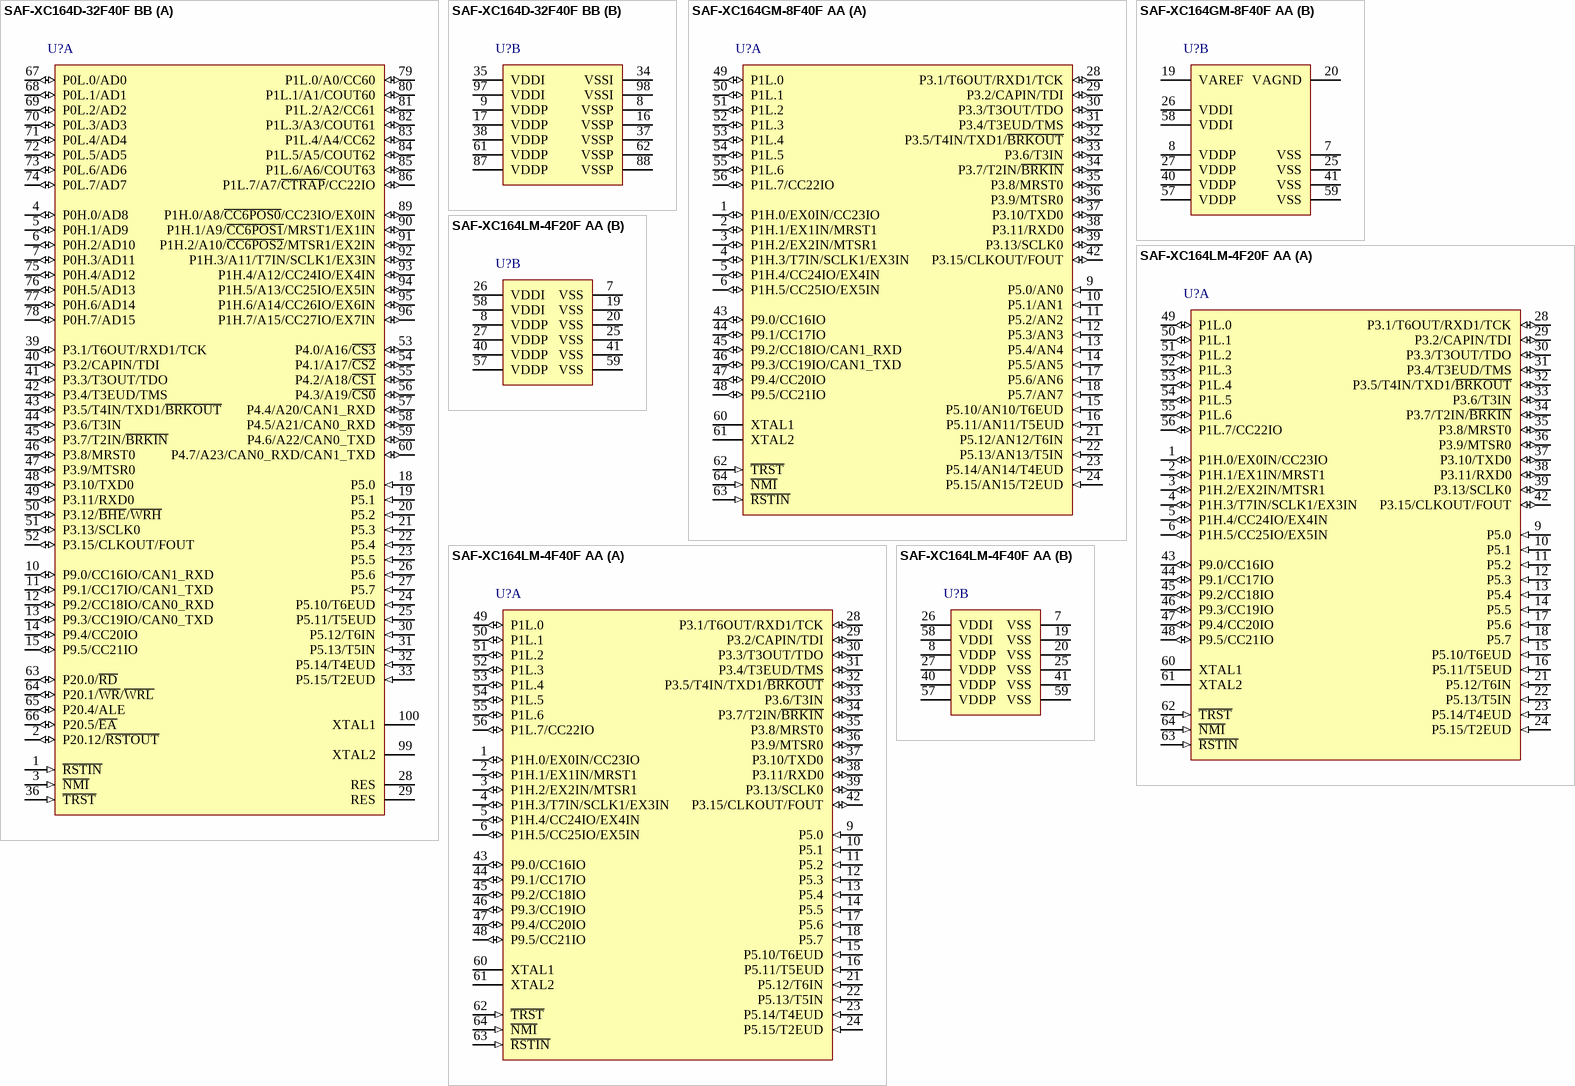
[diagram p19: symbols SAF-XC164D-32F40F BB to SAF-XC164LM-4F40F AA]

## SAF-XC164D-32F40F BB
designator U?
40 MHz XC166 MCU with 256 KByte Program Memory, 12 KByte SRAM, 5 V, -40 to 85 degC, PG-TQFP-100, Reel, Green; Manufacturer: Infineon; PartNumber: SAF-XC164D-32F40F BB; A / D input lines (incl. FADC): 0; CAN Nodes: 2; Digital I/O Lines: 79; DSP functionality (e.g MDU/MAC): TRUE; I/O Operation Voltages: 5 V; Instruction width [bits]: 16; Max Clock Frequency: 40 MHz; Power Modes: 3; Serial I/O Interfaces: 4; Timed I/O Pins (PWM-Ch,CAPCOM): 36; Timer / Counter: 11; Type of Memory: Flash; Type of Serial I/O Interfaces: ASC(2), SSC(2); DatasheetVersion: Rev. 1.0; PackageVersion: V2.3, 08/2006; PackageReference: PG-TQFP-100-5; PackageDescription: 100-Pin Plastic Green Thin Quad Flat Package, Body 14 x 14 mm, Pitch 0.5 mm; Supplier 1: Digi-Key; Supplier Part Number 1: SAF-XC164D-32F40F BB-ND; External Bus interface: TRUE; Green: TRUE; Number of ADC Modules: 0; Oscillator Watchdog: TRUE; Packing: Reel; Program Memory: 256 KByte; Real Time Clock (RTC): TRUE; SRAM (incl. Cache): 12 KByte; Watchdog Timer: TRUE; Mounting Technology: Surface Mount; Code_JEDEC: J-STD-020C; ComponentLink1Description: Manufacturer URL; ComponentLink1URL: http://www.infineon.com/; ComponentLink2Description: Datasheet; ComponentLink2URL: http://www.infineon.com/dgdl/xc164d_32_ds_v1_2006_08.pdf?folderId=db3a304412b407950112b408e8c90004&fileId=db3a304412b407950112b41d47102fc3; ComponentLink3Description: Package Specification; ComponentLink3URL: http://www.infineon.com/dgdl/xc164cs_16_ds_v2.3_2006_08.pdf?folderId=db3a3043136c9a8b01136d92c94b0061&fileId=db3a3043136c9a8b01136daed118006e&sId=db3a30433d956bc3013d9bdc2bfa14ec
footprint INF-PG-TQFP-100-5_N (QFP, 100-Leads, Body 14x14mm, Pitch 0.5mm, IPC Medium Density)
footprint INF-PG-TQFP-100-5_L (QFP, 100-Leads, Body 14x14mm, Pitch 0.5mm, IPC High Density)
footprint INF-PG-TQFP-100-5_M (QFP, 100-Leads, Body 14x14mm, Pitch 0.5mm, IPC Low Density)
part A pins: 1 ~{RSTIN} (in) "Reset Input with Schmitt-Trigger characteristics. A low level at this pin while the oscillator is running resets the XC164D.A spike filter suppresses input pulses < 10 ns. Input pulses > 100 ns safely pass the filter. The (See Datasheet)", 2 P20.12/~{RSTOUT} (io), 3 ~{NMI} (in) "Non-Maskable Interrupt Input. A high to low transition at this pin causes the CPU to vector to the NMI trap routine. When the PWRDN (power down) instruction is executed, the N\M\I\ pin must be low in order to force the (See Datasheet)", 4 P0H.0/AD8 (io), 5 P0H.1/AD9 (io), 6 P0H.2/AD10 (io), 7 P0H.3/AD11 (io), 10 P9.0/CC16IO/CAN1_RXD (io), 11 P9.1/CC17IO/CAN1_TXD (io), 12 P9.2/CC18IO/CAN0_RXD (io), 13 P9.3/CC19IO/CAN0_TXD (io), 14 P9.4/CC20IO (io), 15 P9.5/CC21IO (io), 18 P5.0 (in) "No Alternate Function beside General Purpose Input", 19 P5.1 (in) "No Alternate Function beside General Purpose Input", 20 P5.2 (in) "No Alternate Function beside General Purpose Input", 21 P5.3 (in) "No Alternate Function beside General Purpose Input", 22 P5.4 (in) "No Alternate Function beside General Purpose Input", 23 P5.5 (in) "No Alternate Function beside General Purpose Input", 24 P5.10/T6EUD (in), 25 P5.11/T5EUD (in), 26 P5.6 (in) "No Alternate Function beside General Purpose Input", 27 P5.7 (in) "No Alternate Function beside General Purpose Input", 28 RES "Pin is reserved and should be connected to VDDP or VSSP", 29 RES "Pin is reserved and should be connected to VSSP", 30 P5.12/T6IN (in), 31 P5.13/T5IN (in), 32 P5.14/T4EUD (in), 33 P5.15/T2EUD (in), 36 ~{TRST} (in) "Test-System Reset Input. For normal system operation, pin T\R\S\T\ should be held low. A high level at this pin at the rising edge of R\S\T\I\N\ activates the XC164CM’s debug system. In this case, pin T\R\S\T\ must b(See Datasheet)", 39 P3.1/T6OUT/RXD1/TCK (io), 40 P3.2/CAPIN/TDI (io), 41 P3.3/T3OUT/TDO (io), 42 P3.4/T3EUD/TMS (io), 43 P3.5/T4IN/TXD1/~{BRKOUT} (io), 44 P3.6/T3IN (io), 45 P3.7/T2IN/~{BRKIN} (io), 46 P3.8/MRST0 (io), 47 P3.9/MTSR0 (io), 48 P3.10/TXD0 (io), 49 P3.11/RXD0 (io), 50 P3.12/~{BHE}/~{WRH} (io), 51 P3.13/SCLK0 (io), 52 P3.15/CLKOUT/FOUT (io), 53 P4.0/A16/~{CS3} (io), 54 P4.1/A17/~{CS2} (io), 55 P4.2/A18/~{CS1} (io), 56 P4.3/A19/~{CS0} (io), 57 P4.4/A20/CAN1_RXD (io), 58 P4.5/A21/CAN0_RXD (io), 59 P4.6/A22/CAN0_TXD (io), 60 P4.7/A23/CAN0_RXD/CAN1_TXD (io), 63 P20.0/~{RD} (io), 64 P20.1/~{WR}/~{WRL} (io), 65 P20.4/ALE (io), 66 P20.5/~{EA} (io), 67 P0L.0/AD0 (io), 68 P0L.1/AD1 (io), 69 P0L.2/AD2 (io), 70 P0L.3/AD3 (io), 71 P0L.4/AD4 (io), 72 P0L.5/AD5 (io), 73 P0L.6/AD6 (io), 74 P0L.7/AD7 (io), 75 P0H.4/AD12 (io), 76 P0H.5/AD13 (io), 77 P0H.6/AD14 (io), 78 P0H.7/AD15 (io), 79 P1L.0/A0/CC60 (io), 80 P1L.1/A1/COUT60 (io), 81 P1L.2/A2/CC61 (io), 82 P1L.3/A3/COUT61 (io), 83 P1L.4/A4/CC62 (io), 84 P1L.5/A5/COUT62 (io), 85 P1L.6/A6/COUT63 (io), 86 P1L.7/A7/~{CTRAP}/CC22IO (io), 89 P1H.0/A8/~{CC6POS0}/CC23IO/EX0IN (io), 90 P1H.1/A9/~{CC6POS1}/MRST1/EX1IN (io), 91 P1H.2/A10/~{CC6POS2}/MTSR1/EX2IN (io), 92 P1H.3/A11/T7IN/SCLK1/EX3IN (io), 93 P1H.4/A12/CC24IO/EX4IN (io), 94 P1H.5/A13/CC25IO/EX5IN (io), 95 P1H.6/A14/CC26IO/EX6IN (io), 96 P1H.7/A15/CC27IO/EX7IN (io), 99 XTAL2 "Output of the oscillator amplifier circuit", 100 XTAL1 "Input to the oscillator amplifier and input to the internal clock generator"
part B pins: 8 VSSP (power) "Digital Ground.Connect decoupling capacitors to adjacent VDD/VSS pin pairs as close as possible to the pins.All VSS pins must be connected to the ground-line or groundplane.", 9 VDDP (power) "Digital Pad Supply Voltage (Pin Output Drivers):+5 V during normal operation and idle mode.", 16 VSSP (power) "Digital Ground.Connect decoupling capacitors to adjacent VDD/VSS pin pairs as close as possible to the pins.All VSS pins must be connected to the ground-line or groundplane.", 17 VDDP (power) "Digital Pad Supply Voltage (Pin Output Drivers):+5 V during normal operation and idle mode.", 34 VSSI (power) "Digital Ground.Connect decoupling capacitors to adjacent VDD/VSS pin pairs as close as possible to the pins.All VSS pins must be connected to the ground-line or groundplane.", 35 VDDI (power) "Digital Core Supply Voltage (On-Chip Modules):+2.5 V during normal operation and idle mode", 37 VSSP (power) "Digital Ground.Connect decoupling capacitors to adjacent VDD/VSS pin pairs as close as possible to the pins.All VSS pins must be connected to the ground-line or groundplane.", 38 VDDP (power) "Digital Pad Supply Voltage (Pin Output Drivers):+5 V during normal operation and idle mode.", 61 VDDP (power) "Digital Pad Supply Voltage (Pin Output Drivers):+5 V during normal operation and idle mode.", 62 VSSP (power) "Digital Ground.Connect decoupling capacitors to adjacent VDD/VSS pin pairs as close as possible to the pins.All VSS pins must be connected to the ground-line or groundplane.", 87 VDDP (power) "Digital Pad Supply Voltage (Pin Output Drivers):+5 V during normal operation and idle mode.", 88 VSSP (power) "Digital Ground.Connect decoupling capacitors to adjacent VDD/VSS pin pairs as close as possible to the pins.All VSS pins must be connected to the ground-line or groundplane.", 97 VDDI (power) "Digital Core Supply Voltage (On-Chip Modules):+2.5 V during normal operation and idle mode", 98 VSSI (power) "Digital Ground.Connect decoupling capacitors to adjacent VDD/VSS pin pairs as close as possible to the pins.All VSS pins must be connected to the ground-line or groundplane."

## SAF-XC164GM-8F40F AA
designator U?
40 MHz XC166 MCU with 64 KByte Program Memory, 6 KByte SRAM, 5 V, -40 to 85 degC, PG-LQFP-64, Reel, Green; Manufacturer: Infineon; PartNumber: SAF-XC164GM-8F40F AA; A / D input lines (incl. FADC): 14; CAN Nodes: 2; Digital I/O Lines: 47; DSP functionality (e.g MDU/MAC): TRUE; I/O Operation Voltages: 5 V; Instruction width [bits]: 16; Max Clock Frequency: 40 MHz; Number of ADC Modules: 1; Power Modes: 3; Serial I/O Interfaces: 4; SRAM (incl. Cache): 6 KByte; Timer / Counter: 7; Type of Memory: Flash; Type of Serial I/O Interfaces: ASC(2), SSC(2); DatasheetVersion: Rev. 1.2; PackageVersion: V1.2, 03/2007; PackageReference: PG-TQFP-64-8; PackageDescription: 64-Pin Plastic Thin Quad Flat Package, Body 10 x 10 mm, Pitch 0.5 mm; Supplier 1: Digi-Key; Supplier Part Number 1: SAF-XC164GM-8F40FAAINCT-ND; External Bus interface: TRUE; Green: TRUE; Oscillator Watchdog: TRUE; Packing: Reel; Program Memory: 64 KByte; Real Time Clock (RTC): TRUE; Timed I/O Pins (PWM-Ch,CAPCOM): 16; Watchdog Timer: TRUE; Mounting Technology: Surface Mount; ComponentLink1Description: Manufacturer URL; ComponentLink1URL: http://www.infineon.com/; ComponentLink2Description: Datasheet; ComponentLink2URL: http://www.infineon.com/dgdl/xc164gm_ds_v1.2_2007_03.pdf?folderId=db3a304412b407950112b408e8c90004&fileId=db3a304412b407950112b40b84a30832; ComponentLink3Description: Package Specification; ComponentLink3URL: http://www.infineon.com/dgdl/xc164lm_ds_v1.2_2007_03.pdf?folderId=db3a304412b407950112b408e8c90004&fileId=db3a304412b407950112b40c22200a81&sId=db3a30433d956bc3013d9e7060dd2801
footprint INF-PG-TQFP-64-8_N (QFP, 64-Leads, Body 10x10mm, Pitch 0.5mm, IPC Medium Density)
footprint INF-PG-TQFP-64-8_L (QFP, 64-Leads, Body 10x10mm, Pitch 0.5mm, IPC High Density)
footprint INF-PG-TQFP-64-8_M (QFP, 64-Leads, Body 10x10mm, Pitch 0.5mm, IPC Low Density)
part A pins: 1 P1H.0/EX0IN/CC23IO (io), 2 P1H.1/EX1IN/MRST1 (io), 3 P1H.2/EX2IN/MTSR1 (io), 4 P1H.3/T7IN/SCLK1/EX3IN (io), 5 P1H.4/CC24IO/EX4IN (io), 6 P1H.5/CC25IO/EX5IN (io), 9 P5.0/AN0 (in), 10 P5.1/AN1 (in), 11 P5.2/AN2 (in), 12 P5.3/AN3 (in), 13 P5.4/AN4 (in), 14 P5.5/AN5 (in), 15 P5.10/AN10/T6EUD (in), 16 P5.11/AN11/T5EUD (in), 17 P5.6/AN6 (in), 18 P5.7/AN7 (in), 21 P5.12/AN12/T6IN (in), 22 P5.13/AN13/T5IN (in), 23 P5.14/AN14/T4EUD (in), 24 P5.15/AN15/T2EUD (in), 28 P3.1/T6OUT/RXD1/TCK (io), 29 P3.2/CAPIN/TDI (io), 30 P3.3/T3OUT/TDO (io), 31 P3.4/T3EUD/TMS (io), 32 P3.5/T4IN/TXD1/~{BRKOUT} (io), 33 P3.6/T3IN (io), 34 P3.7/T2IN/~{BRKIN} (io), 35 P3.8/MRST0 (io), 36 P3.9/MTSR0 (io), 37 P3.10/TXD0 (io), 38 P3.11/RXD0 (io), 39 P3.13/SCLK0 (io), 42 P3.15/CLKOUT/FOUT (io), 43 P9.0/CC16IO (io), 44 P9.1/CC17IO (io), 45 P9.2/CC18IO/CAN1_RXD (io), 46 P9.3/CC19IO/CAN1_TXD (io), 47 P9.4/CC20IO (io), 48 P9.5/CC21IO (io), 49 P1L.0 (io) "PORT1 consists of one 8-bit and one 6-bit bidirectional I/O port P1L and P1H. Each pin can be programmed for input (output driver in high-impedance state) or output.", 50 P1L.1 (io) "PORT1 consists of one 8-bit and one 6-bit bidirectional I/O port P1L and P1H. Each pin can be programmed for input (output driver in high-impedance state) or output.", 51 P1L.2 (io) "PORT1 consists of one 8-bit and one 6-bit bidirectional I/O port P1L and P1H. Each pin can be programmed for input (output driver in high-impedance state) or output.", 52 P1L.3 (io) "PORT1 consists of one 8-bit and one 6-bit bidirectional I/O port P1L and P1H. Each pin can be programmed for input (output driver in high-impedance state) or output.", 53 P1L.4 (io) "PORT1 consists of one 8-bit and one 6-bit bidirectional I/O port P1L and P1H. Each pin can be programmed for input (output driver in high-impedance state) or output.", 54 P1L.5 (io) "PORT1 consists of one 8-bit and one 6-bit bidirectional I/O port P1L and P1H. Each pin can be programmed for input (output driver in high-impedance state) or output.", 55 P1L.6 (io) "PORT1 consists of one 8-bit and one 6-bit bidirectional I/O port P1L and P1H. Each pin can be programmed for input (output driver in high-impedance state) or output.", 56 P1L.7/CC22IO (io), 60 XTAL1 "Input to the oscillator amplifier and input to the internal clock generator To clock the device from an external source, drive XTAL1, while leaving XTAL2 unconnected. Minimum and maximum high/low and rise/fall times (See Datasheet)", 61 XTAL2 "Output of the oscillator amplifier circuit", 62 ~{TRST} (in) "Test-System Reset Input. For normal system operation, pin T\R\S\T\ should be held low. A high level at this pin at the rising edge of R\S\T\I\N\ enables the hardware configuration and activates the XC164GM’s debug system(See Datasheet)", 63 ~{RSTIN} (in) "Reset Input with Schmitt-Trigger characteristics. A low-level at this pin while the oscillator is running resets the XC164GM.A spike filter suppresses input pulses < 10 ns. Input pulses > 100 ns safely pass the filter. The (See Datasheet)", 64 ~{NMI} (in) "Non-Maskable Interrupt Input. A high to low transition at this pin causes the CPU to vector to the NMI trap routine. When the PWRDN (power down) instruction is executed, the N\M\I\ pin must be low in order to force the (See Datasheet)"
part B pins: 7 VSS (power) "Digital Ground Connect decoupling capacitors to adjacent VDD/VSS pin pairs as close as possible to the pins.All VSS pins must be connected to the ground-line or groundplane.", 8 VDDP (power) "Digital Pad Supply Voltage (Pin Output Drivers): +5 V during normal operation and idle mode.", 19 VAREF (power) "Reference voltage for the A/D converter", 20 VAGND (power) "Reference ground for the A/D converter", 25 VSS (power) "Digital Ground Connect decoupling capacitors to adjacent VDD/VSS pin pairs as close as possible to the pins.All VSS pins must be connected to the ground-line or groundplane.", 26 VDDI (power) "Digital Core Supply Voltage (On-Chip Modules): +2.5 V during normal operation and idle mode.", 27 VDDP (power) "Digital Pad Supply Voltage (Pin Output Drivers): +5 V during normal operation and idle mode.", 40 VDDP (power) "Digital Pad Supply Voltage (Pin Output Drivers): +5 V during normal operation and idle mode.", 41 VSS (power) "Digital Ground Connect decoupling capacitors to adjacent VDD/VSS pin pairs as close as possible to the pins.All VSS pins must be connected to the ground-line or groundplane.", 57 VDDP (power) "Digital Pad Supply Voltage (Pin Output Drivers): +5 V during normal operation and idle mode.", 58 VDDI (power) "Digital Core Supply Voltage (On-Chip Modules): +2.5 V during normal operation and idle mode.", 59 VSS (power) "Digital Ground Connect decoupling capacitors to adjacent VDD/VSS pin pairs as close as possible to the pins.All VSS pins must be connected to the ground-line or groundplane."

## SAF-XC164LM-4F20F AA
designator U?
20 MHz XC166 MCU with 32 KByte Program Memory, 4 KByte SRAM, 5 V, -40 to 85 degC, PG-LQFP-64, Tray, Green; Manufacturer: Infineon; PartNumber: SAF-XC164LM-4F20F AA; A / D input lines (incl. FADC): 0; Digital I/O Lines: 47; DSP functionality (e.g MDU/MAC): TRUE; I/O Operation Voltages: 5 V; Instruction width [bits]: 16; Max Clock Frequency: 20 MHz; Power Modes: 3; Serial I/O Interfaces: 4; SRAM (incl. Cache): 4 KByte; Timer / Counter: 7; Type of Memory: Flash; Type of Serial I/O Interfaces: ASC(2), SSC(2); DatasheetVersion: Rev. 1.2; PackageVersion: V1.2, 03/2007; PackageReference: PG-TQFP-64-8; PackageDescription: 64-Pin Plastic Thin Quad Flat Package, Body 10 x 10 mm, Pitch 0.5 mm; Supplier 1: Digi-Key; Supplier Part Number 1: SAF-XC164LM-4F20FAAINCT-ND; CAN Nodes: 0; External Bus interface: TRUE; Green: TRUE; Number of ADC Modules: 0; Oscillator Watchdog: TRUE; Packing: Tray; Program Memory: 32 KByte; Real Time Clock (RTC): TRUE; Timed I/O Pins (PWM-Ch,CAPCOM): 16; Watchdog Timer: TRUE; Mounting Technology: Surface Mount; ComponentLink1Description: Manufacturer URL; ComponentLink1URL: http://www.infineon.com/; ComponentLink2Description: Datasheet; ComponentLink2URL: http://www.infineon.com/dgdl/xc164lm_ds_v1.2_2007_03.pdf?folderId=db3a304412b407950112b408e8c90004&fileId=db3a304412b407950112b40c22200a81; ComponentLink3Description: Package Specification; ComponentLink3URL: http://www.infineon.com/dgdl/xc164lm_ds_v1.2_2007_03.pdf?folderId=db3a304412b407950112b408e8c90004&fileId=db3a304412b407950112b40c22200a81&sId=db3a30433d956bc3013d9e7060dd2801
footprint INF-PG-TQFP-64-8_N (QFP, 64-Leads, Body 10x10mm, Pitch 0.5mm, IPC Medium Density)
footprint INF-PG-TQFP-64-8_L (QFP, 64-Leads, Body 10x10mm, Pitch 0.5mm, IPC High Density)
footprint INF-PG-TQFP-64-8_M (QFP, 64-Leads, Body 10x10mm, Pitch 0.5mm, IPC Low Density)
part A pins: 1 P1H.0/EX0IN/CC23IO (io), 2 P1H.1/EX1IN/MRST1 (io), 3 P1H.2/EX2IN/MTSR1 (io), 4 P1H.3/T7IN/SCLK1/EX3IN (io), 5 P1H.4/CC24IO/EX4IN (io), 6 P1H.5/CC25IO/EX5IN (io), 9 P5.0 (in) "Port 5 is a 14-bit input-only port", 10 P5.1 (in) "Port 5 is a 14-bit input-only port", 11 P5.2 (in) "Port 5 is a 14-bit input-only port", 12 P5.3 (in) "Port 5 is a 14-bit input-only port", 13 P5.4 (in) "Port 5 is a 14-bit input-only port", 14 P5.5 (in) "Port 5 is a 14-bit input-only port", 15 P5.10/T6EUD (in), 16 P5.11/T5EUD (in), 17 P5.6 (in) "Port 5 is a 14-bit input-only port", 18 P5.7 (in) "Port 5 is a 14-bit input-only port", 21 P5.12/T6IN (in), 22 P5.13/T5IN (in), 23 P5.14/T4EUD (in), 24 P5.15/T2EUD (in), 28 P3.1/T6OUT/RXD1/TCK (io), 29 P3.2/CAPIN/TDI (io), 30 P3.3/T3OUT/TDO (io), 31 P3.4/T3EUD/TMS (io), 32 P3.5/T4IN/TXD1/~{BRKOUT} (io), 33 P3.6/T3IN (io), 34 P3.7/T2IN/~{BRKIN} (io), 35 P3.8/MRST0 (io), 36 P3.9/MTSR0 (io), 37 P3.10/TXD0 (io), 38 P3.11/RXD0 (io), 39 P3.13/SCLK0 (io), 42 P3.15/CLKOUT/FOUT (io), 43 P9.0/CC16IO (io), 44 P9.1/CC17IO (io), 45 P9.2/CC18IO (io), 46 P9.3/CC19IO (io), 47 P9.4/CC20IO (io), 48 P9.5/CC21IO (io), 49 P1L.0 (io) "PORT1 consists of one 8-bit and one 6-bit bidirectional I/O port P1L and P1H. Each pin can be programmed for input (output driver in high-impedance state) or output.", 50 P1L.1 (io) "PORT1 consists of one 8-bit and one 6-bit bidirectional I/O port P1L and P1H. Each pin can be programmed for input (output driver in high-impedance state) or output.", 51 P1L.2 (io) "PORT1 consists of one 8-bit and one 6-bit bidirectional I/O port P1L and P1H. Each pin can be programmed for input (output driver in high-impedance state) or output.", 52 P1L.3 (io) "PORT1 consists of one 8-bit and one 6-bit bidirectional I/O port P1L and P1H. Each pin can be programmed for input (output driver in high-impedance state) or output.", 53 P1L.4 (io) "PORT1 consists of one 8-bit and one 6-bit bidirectional I/O port P1L and P1H. Each pin can be programmed for input (output driver in high-impedance state) or output.", 54 P1L.5 (io) "PORT1 consists of one 8-bit and one 6-bit bidirectional I/O port P1L and P1H. Each pin can be programmed for input (output driver in high-impedance state) or output.", 55 P1L.6 (io) "PORT1 consists of one 8-bit and one 6-bit bidirectional I/O port P1L and P1H. Each pin can be programmed for input (output driver in high-impedance state) or output.", 56 P1L.7/CC22IO (io), 60 XTAL1 "Input to the oscillator amplifier and input to the internal clock generator To clock the device from an external source, drive XTAL1, while leaving XTAL2 unconnected. Minimum and maximum high/low and rise/fall times (See Datasheet)", 61 XTAL2 "Output of the oscillator amplifier circuit", 62 ~{TRST} (in) "Test-System Reset Input. For normal system operation, pin T\R\S\T\ should be held low. A high level at this pin at the rising edge of R\S\T\I\N\ enables the hardware configuration and activates the XC164LM¡¯s debug system(See Datasheet)", 63 ~{RSTIN} (in) "Reset Input with Schmitt-Trigger characteristics. A low-level at this pin while the oscillator is running resets the XC164LM.A spike filter suppresses input pulses < 10 ns. Input pulses > 100 ns safely pass the filter. The (See Datasheet)", 64 ~{NMI} (in) "Non-Maskable Interrupt Input. A high to low transition at this pin causes the CPU to vector to the NMI trap routine. When the PWRDN (power down) instruction is executed, the N\M\I\ pin must be low in order to force the (See Datasheet)"
part B pins: 7 VSS (power) "Digital Ground Connect decoupling capacitors to adjacent VDD/VSS pin pairs as close as possible to the pins.All VSS pins must be connected to the ground-line or groundplane.", 8 VDDP (power) "Digital Pad Supply Voltage (Pin Output Drivers): +5 V during normal operation and idle mode.", 19 VSS (power) "Digital Ground Connect decoupling capacitors to adjacent VDD/VSS pin pairs as close as possible to the pins.All VSS pins must be connected to the ground-line or groundplane.", 20 VSS (power) "Digital Ground Connect decoupling capacitors to adjacent VDD/VSS pin pairs as close as possible to the pins.All VSS pins must be connected to the ground-line or groundplane.", 25 VSS (power) "Digital Ground Connect decoupling capacitors to adjacent VDD/VSS pin pairs as close as possible to the pins.All VSS pins must be connected to the ground-line or groundplane.", 26 VDDI (power) "Digital Core Supply Voltage (On-Chip Modules): +2.5 V during normal operation and idle mode.", 27 VDDP (power) "Digital Pad Supply Voltage (Pin Output Drivers): +5 V during normal operation and idle mode.", 40 VDDP (power) "Digital Pad Supply Voltage (Pin Output Drivers): +5 V during normal operation and idle mode.", 41 VSS (power) "Digital Ground Connect decoupling capacitors to adjacent VDD/VSS pin pairs as close as possible to the pins.All VSS pins must be connected to the ground-line or groundplane.", 57 VDDP (power) "Digital Pad Supply Voltage (Pin Output Drivers): +5 V during normal operation and idle mode.", 58 VDDI (power) "Digital Core Supply Voltage (On-Chip Modules): +2.5 V during normal operation and idle mode.", 59 VSS (power) "Digital Ground Connect decoupling capacitors to adjacent VDD/VSS pin pairs as close as possible to the pins.All VSS pins must be connected to the ground-line or groundplane."